# Altium footprint library WL-STRB.PcbLib: 2 footprints
Each footprint in its own frame and in the unit in brackets; x right, y up, seen from the top. Pads: shape width x height; smd on the part's side, far side on the other; paste and mask are expansions set on the pad; w line width, h text height; cw(c..) or ccw(c..) is an arc to the next point about the centre after c.
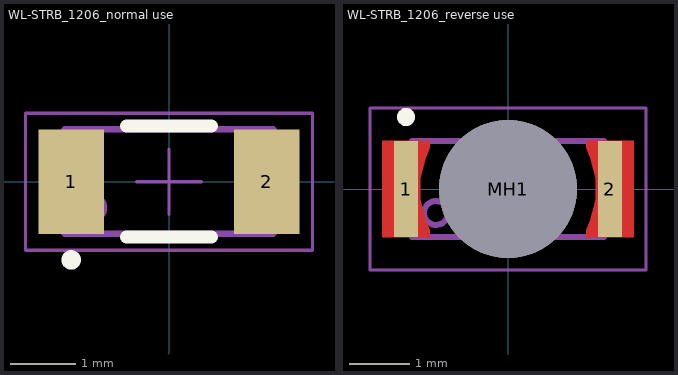
[diagram p0: the footprints below, top view; thin cyan lines are the x and y axes]

## WL-STRB_1206_normal use [mm] "SMT Phototransistor Reverse mount Black. body 3.2x1.6mm"
height 1.95
pads (2):
  rect 1x1.6 smd: 1(-1.5,0) 2(1.5,0)
Top Overlay:
  circle w0.15: c-1.5,-1.2 r0.075
  lines w0.2: -0.65,-0.85 0.65,-0.85 ; -0.65,0.85 0.65,0.85
Top Designator:
  text ".Designator" at -3.999,-0.267 h0.8
Top Component Outline:
  circle w0.1: c-1.2,-0.4 r0.2
  lines w0.1: -1.6,-0.8 -1.6,0.8 1.6,0.8 1.6,-0.8 -1.6,-0.8
Top 3D Body:
  circle w0.1: c-1.2,-0.4 r0.2
  lines w0.1: -1.6,-0.8 -1.6,0.8 1.6,0.8 1.6,-0.8 -1.6,-0.8
Top Courtyard:
  lines w0.05: -0.5,0 0.5,0 ; 0,-0.5 0,0.5 ; -2.2,-1.05 2.2,-1.05 2.2,1.05 -2.2,1.05 -2.2,-1.05
3D body "Download_STP_1541201NC3060 (rev1).stp": height 1.07, standoff 0, extent -1.6,-0.8 1.6,0.8

## WL-STRB_1206_reverse use [mm] "SMT Phototransistor Reverse mount Black. body 3.2x1.6mm"
height 0.39
pads (3):
  rect 0.4x1.6 smd paste-403.566 mask-403.566: 1(-1.7,0) 2(1.7,0)
  round 2.3 hole 2.3 unplated: MH1(0,0)
Top Layer:
  region: -2.1,-0.8 -2.1,0.8 -1.3,0.8 -1.3,0.686 -1.374,0.523 -1.459,0.178 -1.459,-0.178 -1.374,-0.523 -1.3,-0.686 -1.3,-0.8
  region: 2.1,-0.8 2.1,0.8 1.3,0.8 1.3,0.686 1.374,0.523 1.459,0.178 1.459,-0.178 1.374,-0.523 1.3,-0.686 1.3,-0.8
Top Overlay:
  circle w0.15: c-1.7,1.2 r0.075
Top Designator:
  text ".Designator" at -3.999,-0.267 h0.8
Top Component Outline:
  circle w0.1: c-1.2,-0.4 r0.2
  lines w0.1: -1.6,-0.8 1.6,-0.8 1.6,0.8 -1.6,0.8 -1.6,-0.8
Top 3D Body:
  circle w0.1: c-1.2,-0.4 r0.2
  lines w0.1: -1.6,-0.8 1.6,-0.8 1.6,0.8 -1.6,0.8 -1.6,-0.8
Top Courtyard:
  lines w0.05: -0.5,0 0.5,0 ; 0,-0.5 0,0.5 ; -2.3,-1.35 2.3,-1.35 2.3,1.35 -2.3,1.35 -2.3,-1.35
3D body "1541201NC3060.stp": height 0.29, standoff -0.78, extent -1.6,-0.8 1.6,0.8